# EAGLE library part SDIL10 (library divers)
DIL switch 10 lines
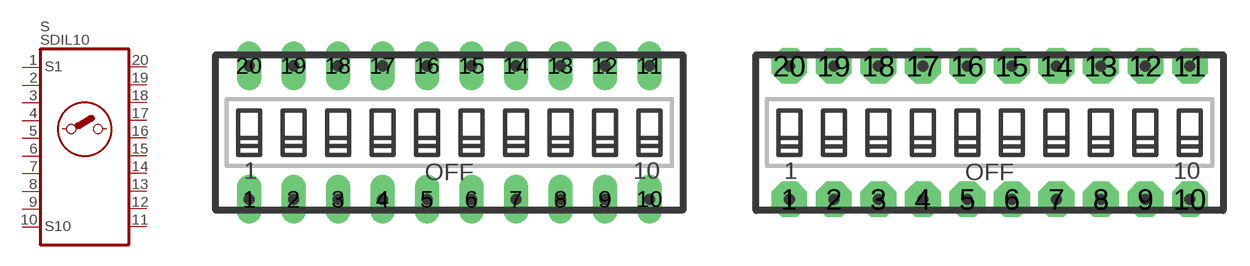
[diagram p22: symbol with the pads of SDIL10L; footprints SDIL10L, SDIL10N]

Designator prefix S

## SDIL10  [SDIL10L]
1  1A
2  2A
3  3A
4  4A
5  5A
6  6A
7  7A
8  8A
9  9A
10  10A
11  10B
12  9B
13  8B
14  7B
15  6B
16  5B
17  4B
18  3B
19  2B
20  1B

## SDIL10N  [SDIL10N]
Pads as for SDIL10L

## SDIL10SL  [SDIL10VL]
Pads as for SDIL10L

## SDIL10SN  [SDIL10VN]
Pads as for SDIL10L

## Footprint SDIL10L (pad centres in mm)
DIL switch 10 lines, long pads
drill 0.889 pad 1.397 long: 1 -11.43,-3.81; 2 -8.89,-3.81; 3 -6.35,-3.81; 4 -3.81,-3.81; 5 -1.27,-3.81; 6 1.27,-3.81; 7 3.81,-3.81; 8 6.35,-3.81; 9 8.89,-3.81; 10 11.43,-3.81; 11 11.43,3.81; 12 8.89,3.81; 13 6.35,3.81; 14 3.81,3.81; 15 1.27,3.81; 16 -1.27,3.81; 17 -3.81,3.81; 18 -6.35,3.81; 19 -8.89,3.81; 20 -11.43,3.81

## Footprint SDIL10N (pad centres in mm)
DIL switch 10 lines
drill 0.889 pad 2.032 octagon: 1 -11.43,-3.81; 2 -8.89,-3.81; 3 -6.35,-3.81; 4 -3.81,-3.81; 5 -1.27,-3.81; 6 1.27,-3.81; 7 3.81,-3.81; 8 6.35,-3.81; 9 8.89,-3.81; 10 11.43,-3.81; 11 11.43,3.81; 12 8.89,3.81; 13 6.35,3.81; 14 3.81,3.81; 15 1.27,3.81; 16 -1.27,3.81; 17 -3.81,3.81; 18 -6.35,3.81; 19 -8.89,3.81; 20 -11.43,3.81

## Footprint SDIL10VL (pad centres in mm)
DIL switch 10 lines, long pads with levers at the side
drill 0.889 pad 1.397 long: 1 -11.43,-3.81; 2 -8.89,-3.81; 3 -6.35,-3.81; 4 -3.81,-3.81; 5 -1.27,-3.81; 6 1.27,-3.81; 7 3.81,-3.81; 8 6.35,-3.81; 9 8.89,-3.81; 10 11.43,-3.81; 11 11.43,3.81; 12 8.89,3.81; 13 6.35,3.81; 14 3.81,3.81; 15 1.27,3.81; 16 -1.27,3.81; 17 -3.81,3.81; 18 -6.35,3.81; 19 -8.89,3.81; 20 -11.43,3.81

## Footprint SDIL10VN (pad centres in mm)
DIL switch 10 lines with levers at the side
drill 0.889 pad 2.032 octagon: 1 -11.43,-3.81; 2 -8.89,-3.81; 3 -6.35,-3.81; 4 -3.81,-3.81; 5 -1.27,-3.81; 6 1.27,-3.81; 7 3.81,-3.81; 8 6.35,-3.81; 9 8.89,-3.81; 10 11.43,-3.81; 11 11.43,3.81; 12 8.89,3.81; 13 6.35,3.81; 14 3.81,3.81; 15 1.27,3.81; 16 -1.27,3.81; 17 -3.81,3.81; 18 -6.35,3.81; 19 -8.89,3.81; 20 -11.43,3.81